# Altium footprint library PCB_Footprint.PcbLib: 124 footprints (part 6 of 8)
Each footprint in its own frame and in the unit in brackets; x right, y up, seen from the top. Pads: shape width x height; smd on the part's side, far side on the other; paste and mask are expansions set on the pad; w line width, h text height; cw(c..) or ccw(c..) is an arc to the next point about the centre after c.
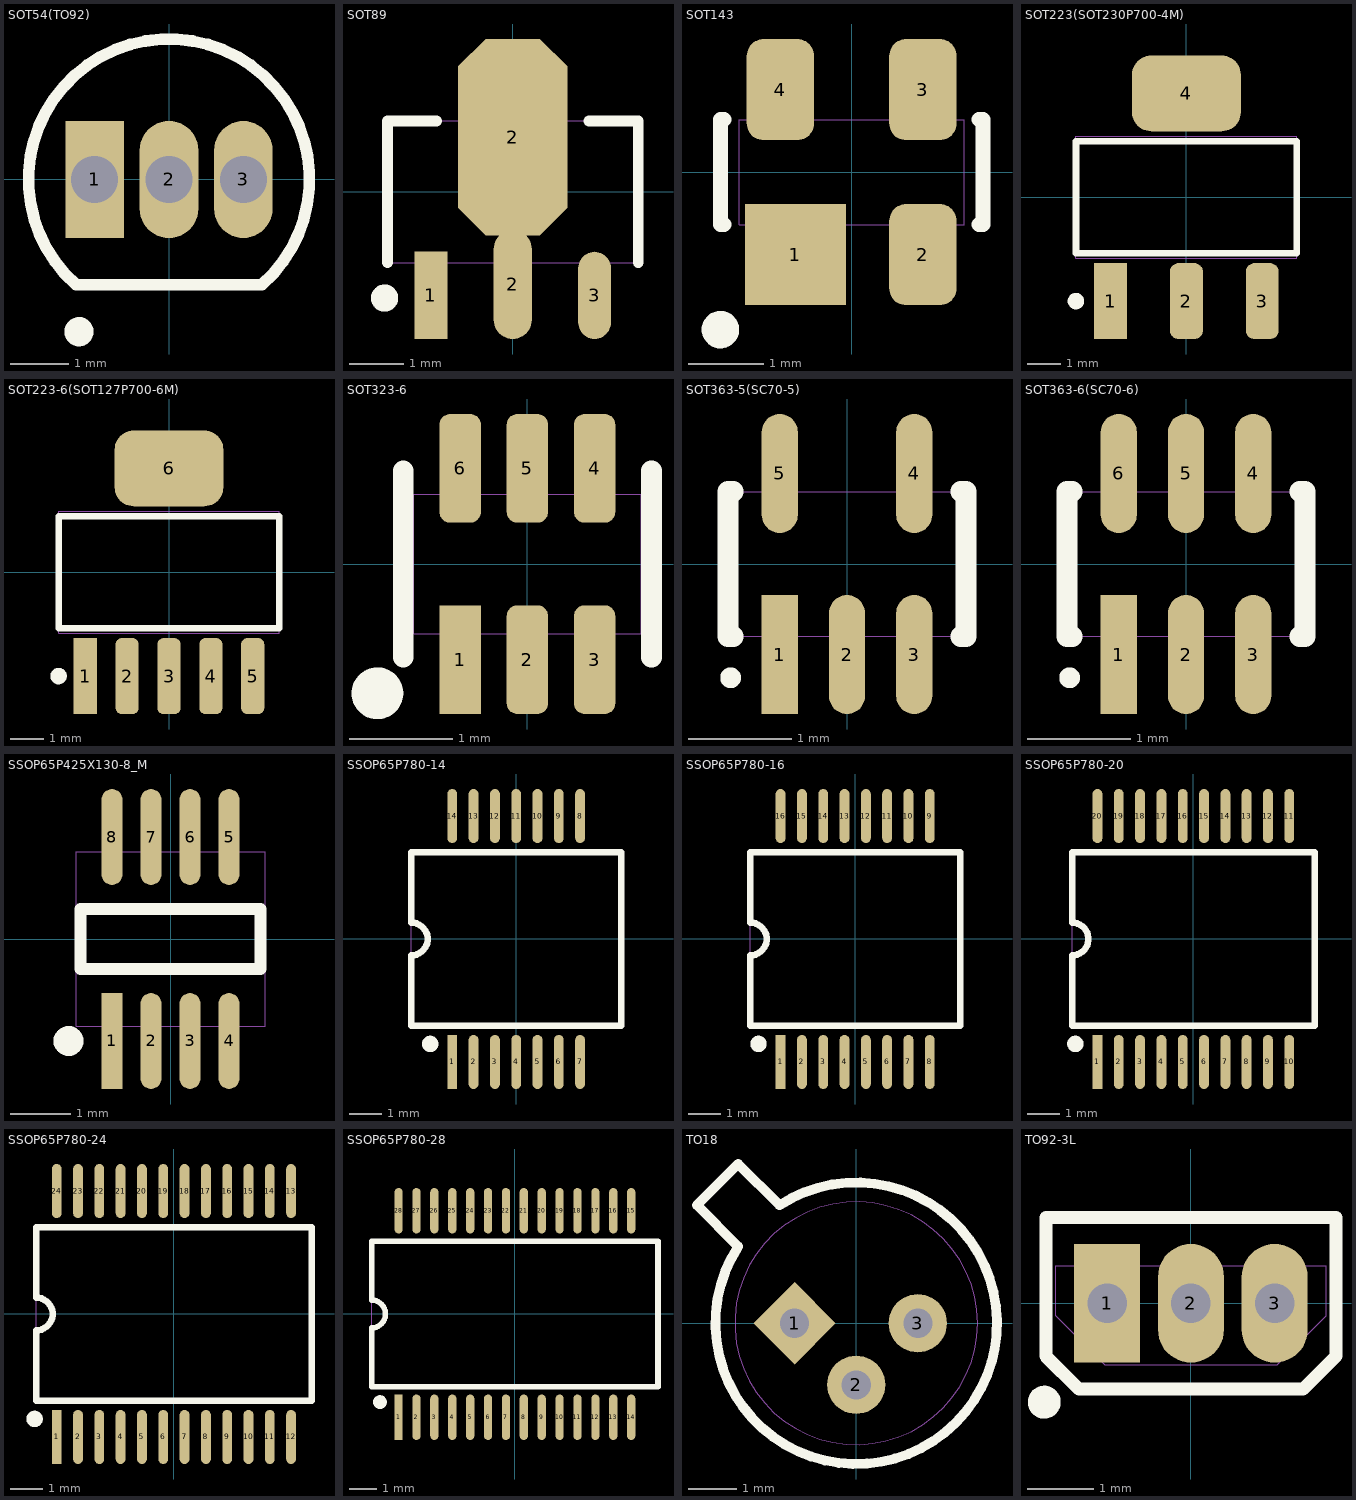
[diagram p5: the footprints below, top view; thin cyan lines are the x and y axes]

## SOT54(TO92) [mm] "TO, Flat Index; 3 In-Line, Axial Leads; Body Dia. 4.8mm; Leads 0.51 x 0.51 mm (max)"
height 7.7
pads (3):
  rect 1x2 hole 0.8: 1(-1.27,0)
  oval 1x2 hole 0.8: 2(0,0) 3(1.27,0)
Top Overlay:
  circle w0.25: c-1.537,-2.6 r0.125
  lines w0.2: -1.587,-1.8 cw(c0,0) 1.587,-1.8 ; -1.587,-1.8 1.587,-1.8
Component Body:
  lines w0.01: -1.587,-1.8 cw(c0,0) 1.587,-1.8 -1.587,-1.8
3D body: height 7.7, standoff 2.5, extent -2.41,-1.801 2.401,2.406
3D body: height 2.5, standoff -6.5, extent -1.568,-0.299 -0.97,0.299
3D body: height 2.5, standoff -6.5, extent -0.298,-0.299 0.3,0.299
3D body: height 2.5, standoff -6.5, extent 0.972,-0.299 1.57,0.299

## SOT89 [mm] "SOT89, 3-Leads, Body 4.5x2.4 mm, Pitch 1.5mm, Lead Span 4.1mm, IPC Low Density"
height 1.6
pads (4):
  rect 0.6x1.6 smd: 1(-1.5,-1.9)
  oval 0.7x2 smd: 2(0,-1.7)
  oct 2x3.6 smd: 2(0,1)
  oval 0.6x1.6 smd: 3(1.5,-1.9)
Top Overlay:
  circle w0.25: c-2.35,-1.95 r0.125
  lines w0.2: -2.3,-1.3 -2.3,1.3 -1.4,1.3 ; 1.4,1.3 2.3,1.3 2.3,-1.3
Component Body:
  lines w0.01: -2.3,-1.3 2.3,-1.3 2.3,1.3 -2.3,1.3 -2.3,-1.3
3D body: height 1.6, standoff 0, extent -2.3,-1.3 2.3,1.3

## SOT143 [mm] "SOT-143; 4 Leads; Body 3 x 2.6 mm, inc. leads (LxW max)"
height 1.1
pads (4):
  rect 1.35x1.35 smd: 1(-0.75,-1.1)
  rrect50% 0.9x1.35 smd: 2(0.95,-1.1) 3(0.95,1.1) 4(-0.95,1.1)
Top Overlay:
  circle w0.25: c-1.75,-2.1 r0.125
  lines w0.2: -1.7,-0.7 -1.75,-0.7 -1.75,0.7 -1.7,0.7 ; 1.7,-0.7 1.75,-0.7 1.75,0.7 1.7,0.7
Component Body:
  lines w0.01: -1.5,-0.7 -1.5,0.7 1.5,0.7 1.5,-0.7 -1.5,-0.7
3D body: height 1.1, standoff 0, extent -1.5,-0.7 1.5,0.7

## SOT223(SOT230P700-4M) [mm] "SOT223, 4-Leads, Body 6.5x3.5mm, Pitch 2.3mm, Lead Span 7mm, IPC Low Density"
height 1.8
pads (4):
  rect 1x2.3 smd: 1(-2.3,-3.15)
  rrect50% 1x2.3 smd: 2(0,-3.15) 3(2.3,-3.15)
  rrect50% 3.3x2.3 smd: 4(0,3.15)
Top Overlay:
  circle w0.25: c-3.35,-3.15 r0.125
  lines w0.2: -3.35,-1.7 3.35,-1.7 3.35,1.7 -3.35,1.7 -3.35,-1.7
Component Body:
  lines w0.01: -3.35,-1.85 -3.35,1.85 3.35,1.85 3.35,-1.85 -3.35,-1.85
3D body: height 1.8, standoff 0, extent -3.35,-1.85 3.35,1.85

## SOT223-6(SOT127P700-6M) [mm] "SOT223, 4-Leads, Body 6.5x3.5mm, Pitch 1.27mm, Lead Span 7mm, IPC Low Density"
height 1.8
pads (6):
  rect 0.7x2.3 smd: 1(-2.54,-3.15)
  rrect50% 0.7x2.3 smd: 2(-1.27,-3.15) 3(0,-3.15) 4(1.27,-3.15) 5(2.54,-3.15)
  rrect50% 3.3x2.3 smd: 6(0,3.15)
Top Overlay:
  circle w0.25: c-3.35,-3.15 r0.125
  lines w0.2: -3.35,-1.7 3.35,-1.7 3.35,1.7 -3.35,1.7 -3.35,-1.7
Component Body:
  lines w0.01: -3.35,-1.85 -3.35,1.85 3.35,1.85 3.35,-1.85 -3.35,-1.85
3D body: height 1.8, standoff 0, extent -3.35,-1.85 3.35,1.85

## SOT323-6 [mm] "SOT-323; 6 Leads; Body 2.2 x 2.4 mm, inc. leads (LxW max)"
height 1.1
pads (6):
  rect 0.4x1.05 smd: 1(-0.65,-0.925)
  rrect50% 0.4x1.05 smd: 2(0,-0.925) 3(0.65,-0.925) 4(0.65,0.925) 5(0,0.925) 6(-0.65,0.925)
Top Overlay:
  circle w0.25: c-1.45,-1.25 r0.125
  lines w0.2: -1.2,-0.9 -1.2,0.9 ; 1.2,-0.9 1.2,0.9
Component Body:
  lines w0.01: -1.099,-0.674 1.099,-0.674 1.099,0.674 -1.099,0.674 -1.099,-0.674
3D body: height 1.1, standoff 0, extent -1.099,-0.674 1.099,0.674

## SOT363-5(SC70-5) [mm] "SOT-363/SC-88/SC70-5; 5 Leads; Body 2.2 x 1.35 mm"
height 1.1
pads (5):
  rect 0.35x1.15 smd: 1(-0.65,-0.875)
  oval 0.35x1.15 smd: 2(0,-0.875) 3(0.65,-0.875) 4(0.65,0.875) 5(-0.65,0.875)
Top Overlay:
  circle w0.1: c-1.125,-1.1 r0.05
  lines w0.2: -1.1,-0.7 -1.15,-0.7 -1.15,0.7 -1.1,0.7 ; 1.1,-0.7 1.15,-0.7 1.15,0.7 1.1,0.7
Component Body:
  lines w0.01: -1.1,-0.7 -1.1,0.7 1.1,0.7 1.1,-0.7 -1.1,-0.7
3D body: height 1.1, standoff 0, extent -1.1,-0.7 1.1,0.7

## SOT363-6(SC70-6) [mm] "SOT-363/SC-88/SC70-6; 6 Leads; Body 2.2 x 1.35 mm"
height 1.1
pads (6):
  rect 0.35x1.15 smd: 1(-0.65,-0.875)
  oval 0.35x1.15 smd: 2(0,-0.875) 3(0.65,-0.875) 4(0.65,0.875) 5(0,0.875) 6(-0.65,0.875)
Top Overlay:
  circle w0.1: c-1.125,-1.1 r0.05
  lines w0.2: -1.1,-0.7 -1.15,-0.7 -1.15,0.7 -1.1,0.7 ; 1.1,-0.7 1.15,-0.7 1.15,0.7 1.1,0.7
Component Body:
  lines w0.01: -1.1,-0.7 1.1,-0.7 1.1,0.7 -1.1,0.7 -1.1,-0.7
3D body: height 1.1, standoff 0, extent -1.1,-0.7 1.1,0.7

## SSOP65P425X130-8_M [mm] "Shrink Small Outline, SSOP, 8-Leads, Body 3.15x4.25mm inc. leads (LxW max), Pitch 0.65mm, IPC Low Density"
height 1.3
pads (8):
  rect 0.35x1.6 smd: 1(-0.975,-1.7)
  oval 0.35x1.6 smd: 2(-0.325,-1.7) 3(0.325,-1.7) 4(0.975,-1.7) 5(0.975,1.7) 6(0.325,1.7) 7(-0.325,1.7) 8(-0.975,1.7)
Top Overlay:
  circle w0.25: c-1.7,-1.7 r0.125
  lines w0.2: -1.5,-0.5 -1.5,0.5 1.5,0.5 1.5,-0.5 -1.5,-0.5
Component Body:
  lines w0.01: -1.575,-1.45 -1.575,1.45 1.575,1.45 1.575,-1.45 -1.575,-1.45
3D body: height 1.3, standoff 0, extent -1.574,-1.449 1.574,1.449

## SSOP65P780-14 [mm] "Shrink Small Outline, SSOP; 14 Leads; Body Width 5.3 mm; Pitch 0.65 mm"
height 2.13
pads (14):
  rect 0.3x1.65 smd: 1(-1.95,-3.75)
  oval 0.3x1.65 smd: 2(-1.3,-3.75) 3(-0.65,-3.75) 4(0,-3.75) 5(0.65,-3.75) 6(1.3,-3.75) 7(1.95,-3.75) 8(1.95,3.75) 9(1.3,3.75) 10(0.65,3.75) 11(0,3.75) 12(-0.65,3.75) 13(-1.3,3.75) 14(-1.95,3.75)
Top Overlay:
  circle w0.25: c-2.625,-3.2 r0.125
  lines w0.2: -3.2,0.5 cw(c-3.2,0) -3.2,-0.5 -3.2,-2.65 3.2,-2.65 3.2,2.65 -3.2,2.65 -3.2,0.517
Component Body:
  lines w0.01: -3.2,-2.7 3.2,-2.7 3.2,2.7 -3.2,2.7 -3.2,-2.7
3D body: height 2.13, standoff 0, extent -3.199,-2.699 3.199,2.699

## SSOP65P780-16 [mm] "Shrink Small Outline, SSOP; 16 Leads; Body Width 5.3 mm; Pitch 0.65 mm"
height 2.13
pads (16):
  rect 0.3x1.65 smd: 1(-2.275,-3.75)
  oval 0.3x1.65 smd: 2(-1.625,-3.75) 3(-0.975,-3.75) 4(-0.325,-3.75) 5(0.325,-3.75) 6(0.975,-3.75) 7(1.625,-3.75) 8(2.275,-3.75) 9(2.275,3.75) 10(1.625,3.75) 11(0.975,3.75) 12(0.325,3.75) 13(-0.325,3.75) 14(-0.975,3.75) 15(-1.625,3.75) 16(-2.275,3.75)
Top Overlay:
  circle w0.25: c-2.95,-3.2 r0.125
  lines w0.2: -3.2,0.5 cw(c-3.2,0) -3.2,-0.5 -3.2,-2.65 3.2,-2.65 3.2,2.65 -3.2,2.65 -3.2,0.517
Component Body:
  lines w0.01: -3.2,-2.7 -3.2,2.7 3.2,2.7 3.2,-2.7 -3.2,-2.7
3D body: height 2.13, standoff 0, extent -3.199,-2.699 3.199,2.699

## SSOP65P780-20 [mm] "Shrink Small Outline, SSOP; 20 Leads; Body Width 5.3 mm; Pitch 0.65 mm"
height 2.13
pads (20):
  rect 0.3x1.65 smd: 1(-2.925,-3.75)
  oval 0.3x1.65 smd: 2(-2.275,-3.75) 3(-1.625,-3.75) 4(-0.975,-3.75) 5(-0.325,-3.75) 6(0.325,-3.75) 7(0.975,-3.75) 8(1.625,-3.75) 9(2.275,-3.75) 10(2.925,-3.75) 11(2.925,3.75) 12(2.275,3.75) 13(1.625,3.75) 14(0.975,3.75) 15(0.325,3.75) 16(-0.325,3.75) 17(-0.975,3.75) 18(-1.625,3.75) 19(-2.275,3.75) 20(-2.925,3.75)
Top Overlay:
  circle w0.25: c-3.6,-3.2 r0.125
  lines w0.2: -3.7,0.5 cw(c-3.7,0) -3.7,-0.5 -3.7,-2.65 3.7,-2.65 3.7,2.65 -3.7,2.65 -3.7,0.517
Component Body:
  lines w0.01: -3.7,-2.7 -3.7,2.7 3.7,2.7 3.7,-2.7 -3.7,-2.7
3D body: height 2.13, standoff 0, extent -3.699,-2.699 3.699,2.699

## SSOP65P780-24 [mm] "Shrink Small Outline, SSOP; 24 Leads; Body Width 5.3 mm; Pitch 0.65 mm"
height 2.13
pads (24):
  rect 0.3x1.65 smd: 1(-3.575,-3.75)
  oval 0.3x1.65 smd: 2(-2.925,-3.75) 3(-2.275,-3.75) 4(-1.625,-3.75) 5(-0.975,-3.75) 6(-0.325,-3.75) 7(0.325,-3.75) 8(0.975,-3.75) 9(1.625,-3.75) 10(2.275,-3.75) 11(2.925,-3.75) 12(3.575,-3.75) 13(3.575,3.75) 14(2.925,3.75) 15(2.275,3.75) 16(1.625,3.75) 17(0.975,3.75) 18(0.325,3.75) 19(-0.325,3.75) 20(-0.975,3.75) 21(-1.625,3.75) 22(-2.275,3.75) 23(-2.925,3.75) 24(-3.575,3.75)
Top Overlay:
  circle w0.25: c-4.25,-3.2 r0.125
  lines w0.2: -4.2,0.5 cw(c-4.2,0) -4.2,-0.5 -4.2,-2.65 4.2,-2.65 4.2,2.65 -4.2,2.65 -4.2,0.517
Component Body:
  lines w0.01: -4.2,-2.7 4.2,-2.7 4.2,2.7 -4.2,2.7 -4.2,-2.7
3D body: height 2.13, standoff 0, extent -4.199,-2.699 4.199,2.699

## SSOP65P780-28 [mm] "Shrink Small Outline, SSOP; 28 Leads; Body Width 5.3 mm; Pitch 0.65 mm"
height 2.13
pads (28):
  rect 0.3x1.65 smd: 1(-4.225,-3.75)
  oval 0.3x1.65 smd: 2(-3.575,-3.75) 3(-2.925,-3.75) 4(-2.275,-3.75) 5(-1.625,-3.75) 6(-0.975,-3.75) 7(-0.325,-3.75) 8(0.325,-3.75) 9(0.975,-3.75) 10(1.625,-3.75) 11(2.275,-3.75) 12(2.925,-3.75) 13(3.575,-3.75) 14(4.225,-3.75) 15(4.225,3.75) 16(3.575,3.75) 17(2.925,3.75) 18(2.275,3.75) 19(1.625,3.75) 20(0.975,3.75) 21(0.325,3.75) 22(-0.325,3.75) 23(-0.975,3.75) 24(-1.625,3.75) 25(-2.275,3.75) 26(-2.925,3.75) 27(-3.575,3.75) 28(-4.225,3.75)
Top Overlay:
  circle w0.25: c-4.9,-3.2 r0.125
  lines w0.2: -5.2,0.5 cw(c-5.2,0) -5.2,-0.5 -5.2,-2.65 5.2,-2.65 5.2,2.65 -5.2,2.65 -5.2,0.517
Component Body:
  lines w0.01: -5.2,-2.7 5.2,-2.7 5.2,2.7 -5.2,2.7 -5.2,-2.7
3D body: height 2.13, standoff 0, extent -5.199,-2.699 5.199,2.699

## TO18 [mm] "Can; 3 Leads; Pin Circle Dia. 2.54 mm; Lead Dia. 0.49 mm (max)"
height 5.3
pads (3):
  rect 1.2x1.2 / inner rect 1.5x1.5 / far side rect 1.4x1.4 hole 0.6 rot 135: 1(-1.27,0)
  round 1.2 / inner round 1.5 / far side round 1.4 hole 0.6: 2(0,-1.27) 3(1.27,0)
Top Overlay:
  lines w0.2: -3.279,2.431 -2.431,3.279 -1.582,2.431 cw(c0,0) -2.431,1.582 -3.279,2.431
Component Body:
  circle w0.01: c0,0 r2.5
  lines w0.01: -3.279,2.431 -2.431,3.279 -1.582,2.431 cw(c0,0) -2.431,1.582 -3.279,2.431
3D body: height 2.5, standoff -6.5, extent 1.022,-0.249 1.52,0.25
3D body: height 2.5, standoff -6.5, extent -0.248,-1.519 0.25,-1.02
3D body: height 2.5, standoff -6.5, extent -1.518,-0.249 -1.02,0.25
3D body: height 0.76, standoff 0, extent -3.28,-2.913 2.901,3.28
3D body: height 5.3, standoff 0, extent -2.499,-2.499 2.499,2.499

## TO92-3L [mm] "TO, Flat Index; 3 In-Line, Axial Leads; Body 4.8x1.5mm (LxW); Leads 0.51 x 0.38 mm (max)"
height 4.65
pads (3):
  rect 1x1.8 hole 0.6: 1(-1.27,0)
  oval 1x1.8 hole 0.6: 2(0,0) 3(1.27,0)
Top Overlay:
  circle w0.25: c-2.225,-1.5 r0.125
  lines w0.2: -2.2,-0.8 -2.2,1.3 2.2,1.3 2.2,-0.8 1.7,-1.3 -1.7,-1.3 -2.2,-0.8
Component Body:
  lines w0.01: -2.05,-0.19 -1.31,-0.93 1.31,-0.93 2.05,-0.19 2.05,0.57 -2.05,0.57 -2.05,-0.19
3D body: height 1.65, standoff -6.5, extent -1.458,-0.19 -1.08,0.19
3D body: height 4.65, standoff 1.65, extent -2.051,-0.931 2.051,0.571
3D body: height 1.65, standoff -6.5, extent -0.188,-0.19 0.19,0.19
3D body: height 1.65, standoff -6.5, extent 1.082,-0.19 1.46,0.19